# EAGLE library part AP6320* (library Hocki_Library)
Buck Switching Regulator IC Positive Adjustable 1.2V 1 Output 2A SOT-23-6 Thin, TSOT-23-6 DigiKey <https://www.digikey.com/product-detail/en/diodes-incorporated/AP63200WU-7/AP63200WU-7DICT-ND/9858427>
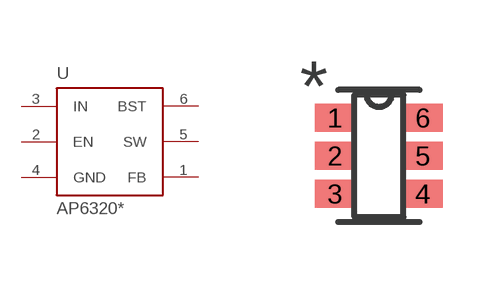
[diagram p12: symbol with the pads of SOT-23-6; footprint SOT-23-6]

Designator prefix U

## AP63200 (DKPN: AP63200WU-7DICT-ND)  [SOT-23-6]
1  FB
2  EN  pas
3  IN  pas
4  GND  pas
5  SW
6  BST  pas

## Footprint SOT-23-6 (pad centres in mm)
smd 1 x 0.7: 1 -1.1,0.95; 2 -1.1,0; 3 -1.1,-0.95; 4 1.1,-0.95; 5 1.1,0; 6 1.1,0.95